# Altium schematic symbol library Switching Regulators.SchLib: 1 symbol
Pins are listed as number, name and electrical type; pins without a type are passive.

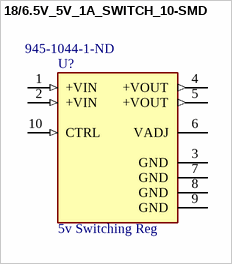
[diagram p0: symbol 18/6.5V_5V_1A_SWITCH_10-SMD]

## 18/6.5V_5V_1A_SWITCH_10-SMD
designator U?, comment 5v Switching Reg  Supplier Part Number 1: 945-1044-1-ND
DC-DC Regulated Power Supply Module, 1 Output, 5W, Hybrid; Manufacturer: Recom; MF: Recom Power; MP: R-78AA5.0-1.0SMD-R; Package Body Material: Plastic; Max Input Voltage: 18V; Min Input Voltage: 6.5V; Max Output Current: 1A; Qualification Status: Not Qualified; Value: *; Package: SMD-10 Recom Power; DigiKey-Purchase-URL: https://snapeda.com/shop?store=DigiKey&id=480105; SnapEDA_Link: https://www.snapeda.com/parts/R-78AA5.0-1.0SMD-R/Recom%20Power/view-part/480105/?ref=snap; Mouser-Purchase-URL: https://snapeda.com/shop?store=Mouser&id=480105; Digi-Key_Part_Number: 945-1044-1-ND; BuyPart: https://www.snapeda.com/parts/R-78AA5.0-1.0SMD-R/Recom%20Power/view-part/480105/?ref=eda; DigiKey: 945-1044-2-ND; Supplier 1: Digi-Key; Manufacturer Part Number: R-78AA5.0-1.0SMD-R; RoHS: Yes; Category: Voltage Regulators - Switching; Stock 1: 5089; Pricing 1: 1=9.84000, 5=9.75800, 10=9.68300, 25=9.53440, 50=9.23640, 100=8.43000 (USD); Package Code: SOP; Number of Pins: 10; Package Shape: Rectangular; Min Operating Temperature: -40°C; Max Operating Temperature: 85°C; Analog IC - Other Type: DC-DC REGULATED POWER SUPPLY MODULE; Nominal Output Voltage: 5V; Package Style: SMALL OUTLINEMeter; Surface Mount: Yes; Terminal Form: Gull Wing; Terminal Position: DUAL; Terminal Pitch: 2.54mm; Temperature Grade: INDUSTRIAL; REACH SVHC: Yes; RoHS Compliant: Yes; ComponentLink1URL: https://datasheet.ciiva.com:443/pdfs/VipMasterIC/IC/RECG/RECG-S-A0007788603/RECG-S-A0007788603-1.pdf?src-supplier=IHS+Markit; ComponentLink1Description: https://datasheet.ciiva.com:443/pdfs/VipMasterIC/IC/RECG/RECG-S-A0007788603/RECG-S-A0007788603-1.pdf?src-supplier=IHS+Markit; ComponentLink2URL: https://datasheet.ciiva.com/2374/r-78aaxx-1-0smd-2374214.pdf?src-supplier=Digi-Key; ComponentLink2Description: https://datasheet.ciiva.com/2374/r-78aaxx-1-0smd-2374214.pdf?src-supplier=Digi-Key; ComponentLink3URL: https://datasheet.ciiva.com/2374/r-78aaxx-1-0smd-2374215.pdf?src-supplier=Digi-Key; ComponentLink3Description: https://datasheet.ciiva.com/2374/r-78aaxx-1-0smd-2374215.pdf?src-supplier=Digi-Key; ComponentLink4URL: https://datasheet.ciiva.com/2374/r-78aaxx-1-0smd-2374216.pdf?src-supplier=Digi-Key; ComponentLink4Description: https://datasheet.ciiva.com/2374/r-78aaxx-1-0smd-2374216.pdf?src-supplier=Digi-Key
footprint 10-SMD
pins: 1 +VIN (in), 2 +VIN (in), 3 GND (power), 4 +VOUT (out), 5 +VOUT (out), 6 VADJ, 7 GND (power), 8 GND (power), 9 GND (power), 10 CTRL (in)